# Altium integrated library Capacitor - Aluminium TH.IntLib: 4591 symbols (part 24 of 68)
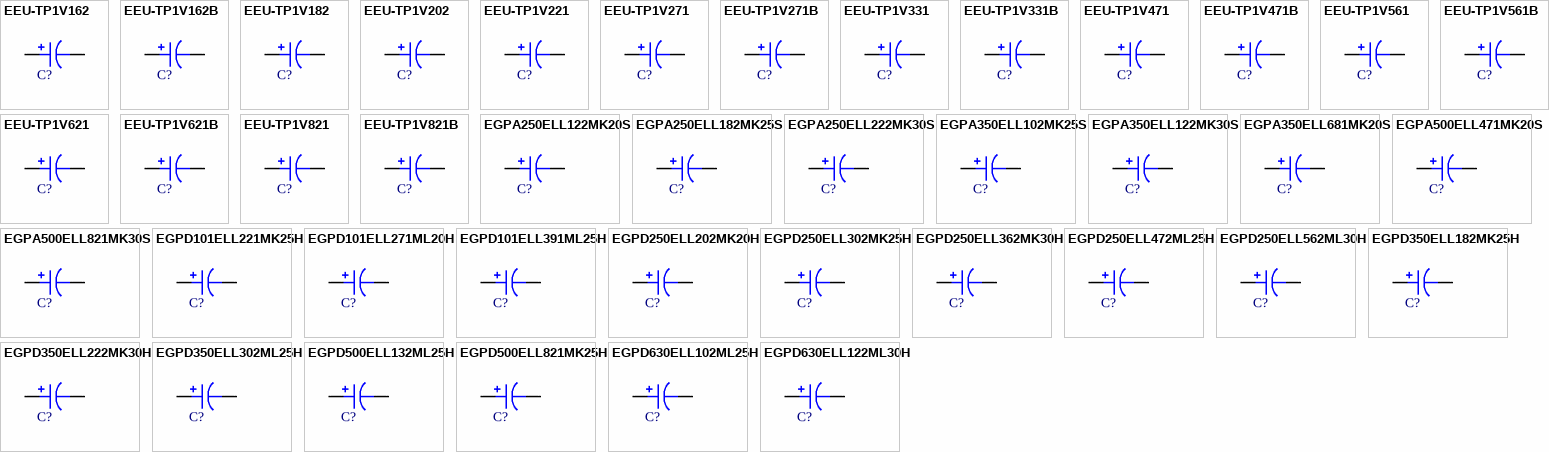
[diagram p137: symbols EEU-TP1V162 to EGPD630ELL122ML30H]

## EEU-TP1V202
designator C?, comment 2000uF  (value not drawn)
CAP ALUM 2000UF 20% 35V RADIAL; Part Number: EEU-TP1V202; Manufacturer: Panasonic Electronic Components; TemperatureRange: -40C ~ 135C; Type: Polar; Ripple Current: 2.6A @ 120Hz; Value: 2000uF; PartId: 27279; Supplier 1: Digi-Key; Supplier Part Number 1: P14933-ND; ComponentLink1Description: Datasheet; ComponentLink1URL: http://industrial.panasonic.com/www-cgi/jvcr13pz.cgi?E+PZ+4+ABA0132+EEUTP1V202+8+WW; ComponentLink2Description: Digi-Key Listing; ComponentLink2URL: https://www.digikey.com/product-detail/en/panasonic-electronic-components/EEU-TP1V202/P14933-ND/2757709; Tolerance: 20%; Voltage: 35V; Price: 3.17; Device Package: Radial, Can, 16mm
footprint CAP AL TH D16 L7.5 H33.5
pins: 1, 2

## EEU-TP1V221
designator C?, comment 220uF  (value not drawn)
CAP ALUM 220UF 20% 35V RADIAL; Part Number: EEU-TP1V221; Manufacturer: Panasonic Electronic Components; TemperatureRange: -40C ~ 135C; Type: Polar; Ripple Current: 715mA @ 120Hz; Value: 220uF; PartId: 25432; Supplier 1: Digi-Key; Supplier Part Number 1: P14948-ND; ComponentLink1Description: Datasheet; ComponentLink1URL: http://industrial.panasonic.com/www-cgi/jvcr13pz.cgi?E+PZ+4+ABA0132+EEUTP1V221+8+WW; ComponentLink2Description: Digi-Key Listing; ComponentLink2URL: https://www.digikey.com/product-detail/en/panasonic-electronic-components/EEU-TP1V221/P14948-ND/2757699; Tolerance: 20%; Voltage: 35V; Price: 1.23; Device Package: Radial, Can, 10mm
footprint CAP AL TH D10 L5 H17.5
pins: 1, 2

## EEU-TP1V271
designator C?, comment 270uF  (value not drawn)
CAP ALUM 270UF 20% 35V RADIAL; Part Number: EEU-TP1V271; Manufacturer: Panasonic Electronic Components; TemperatureRange: -40C ~ 135C; Type: Polar; Ripple Current: 715mA @ 120Hz; Value: 270uF; PartId: 25430; Supplier 1: Digi-Key; Supplier Part Number 1: P14947-ND; ComponentLink1Description: Datasheet; ComponentLink1URL: http://industrial.panasonic.com/www-cgi/jvcr13pz.cgi?E+PZ+4+ABA0132+EEUTP1V271+8+WW; ComponentLink2Description: Digi-Key Listing; ComponentLink2URL: https://www.digikey.com/product-detail/en/panasonic-electronic-components/EEU-TP1V271/P14947-ND/2757700; Tolerance: 20%; Voltage: 35V; Price: 1.23; Device Package: Radial, Can, 10mm
footprint CAP AL TH D10 L5 H17.5
pins: 1, 2

## EEU-TP1V271B
designator C?, comment 270uF  (value not drawn)
CAP ALUM 270UF 20% 35V RADIAL; Part Number: EEU-TP1V271B; Manufacturer: Panasonic Electronic Components; TemperatureRange: -40C ~ 135C; Type: Polar; Ripple Current: 715mA @ 120Hz; Value: 270uF; PartId: 25234; Supplier 1: Digi-Key; Supplier Part Number 1: P15705TB-ND; ComponentLink1Description: Datasheet; ComponentLink1URL: http://industrial.panasonic.com/www-cgi/jvcr13pz.cgi?E+PZ+4+ABA0132+EEUTP1V271B+8+WW; ComponentLink2Description: Digi-Key Listing; ComponentLink2URL: https://www.digikey.com/product-detail/en/panasonic-electronic-components/EEU-TP1V271B/P15705TB-ND/2756340; Tolerance: 20%; Voltage: 35V; Price: 0.5509; Device Package: Radial, Can, 10mm
footprint CAP AL TH D10 L5 H17.5
pins: 1, 2

## EEU-TP1V331
designator C?, comment 330uF  (value not drawn)
CAP ALUM 330UF 20% 35V RADIAL; Part Number: EEU-TP1V331; Manufacturer: Panasonic Electronic Components; TemperatureRange: -40C ~ 135C; Type: Polar; Ripple Current: 1.001A @ 120Hz; Value: 330uF; PartId: 25994; Supplier 1: Digi-Key; Supplier Part Number 1: P14944-ND; ComponentLink1Description: Datasheet; ComponentLink1URL: http://industrial.panasonic.com/www-cgi/jvcr13pz.cgi?E+PZ+4+ABA0132+EEUTP1V331+8+WW; ComponentLink2Description: Digi-Key Listing; ComponentLink2URL: https://www.digikey.com/product-detail/en/panasonic-electronic-components/EEU-TP1V331/P14944-ND/2757712; Tolerance: 20%; Voltage: 35V; Price: 1.41; Device Package: Radial, Can, 10mm
footprint CAP AL TH D10 L5 H22
pins: 1, 2

## EEU-TP1V331B
designator C?, comment 330uF  (value not drawn)
CAP ALUM 330UF 20% 35V RADIAL; Part Number: EEU-TP1V331B; Manufacturer: Panasonic Electronic Components; TemperatureRange: -40C ~ 135C; Type: Polar; Ripple Current: 1.001A @ 120Hz; Value: 330uF; PartId: 25866; Supplier 1: Digi-Key; Supplier Part Number 1: P15707TB-ND; ComponentLink1Description: Datasheet; ComponentLink1URL: http://industrial.panasonic.com/www-cgi/jvcr13pz.cgi?E+PZ+4+ABA0132+EEUTP1V331B+8+WW; ComponentLink2Description: Digi-Key Listing; ComponentLink2URL: https://www.digikey.com/product-detail/en/panasonic-electronic-components/EEU-TP1V331B/P15707TB-ND/2756342; Tolerance: 20%; Voltage: 35V; Price: 0.629; Device Package: Radial, Can, 10mm
footprint CAP AL TH D10 L5 H22
pins: 1, 2

## EEU-TP1V471
designator C?, comment 470uF  (value not drawn)
CAP ALUM 470UF 20% 35V RADIAL; Part Number: EEU-TP1V471; Manufacturer: Panasonic Electronic Components; TemperatureRange: -40C ~ 135C; Type: Polar; Ripple Current: 1.395A @ 120Hz; Value: 470uF; PartId: 23517; Supplier 1: Digi-Key; Supplier Part Number 1: P14942-ND; ComponentLink1Description: Datasheet; ComponentLink1URL: http://industrial.panasonic.com/www-cgi/jvcr13pz.cgi?E+PZ+4+ABA0132+EEUTP1V471+8+WW; ComponentLink2Description: Digi-Key Listing; ComponentLink2URL: https://www.digikey.com/product-detail/en/panasonic-electronic-components/EEU-TP1V471/P14942-ND/2757714; Tolerance: 20%; Voltage: 35V; Price: 1.82; Device Package: Radial, Can, 12.5mm
footprint CAP AL TH D12.5 L5 H22
pins: 1, 2

## EEU-TP1V471B
designator C?, comment 470uF  (value not drawn)
CAP ALUM 470UF 20% 35V RADIAL; Part Number: EEU-TP1V471B; Manufacturer: Panasonic Electronic Components; TemperatureRange: -40C ~ 135C; Type: Polar; Ripple Current: 1.395A @ 120Hz; Value: 470uF; PartId: 23525; Supplier 1: Digi-Key; Supplier Part Number 1: P15709CT-ND; ComponentLink1Description: Datasheet; ComponentLink2Description: Digi-Key Listing; ComponentLink2URL: https://www.digikey.com/product-detail/en/panasonic-electronic-components/EEU-TP1V471B/P15709CT-ND/3831076; Tolerance: 20%; Voltage: 35V; Price: 1.82; Device Package: Radial, Can, 12.5mm
footprint CAP AL TH D12.5 L5 H22
pins: 1, 2

## EEU-TP1V561
designator C?, comment 560uF  (value not drawn)
CAP ALUM 560UF 20% 35V RADIAL; Part Number: EEU-TP1V561; Manufacturer: Panasonic Electronic Components; TemperatureRange: -40C ~ 135C; Type: Polar; Ripple Current: 1.395A @ 120Hz; Value: 560uF; PartId: 23521; Supplier 1: Digi-Key; Supplier Part Number 1: P14941-ND; ComponentLink1Description: Datasheet; ComponentLink1URL: http://industrial.panasonic.com/www-cgi/jvcr13pz.cgi?E+PZ+4+ABA0132+EEUTP1V561+8+WW; ComponentLink2Description: Digi-Key Listing; ComponentLink2URL: https://www.digikey.com/product-detail/en/panasonic-electronic-components/EEU-TP1V561/P14941-ND/2757734; Tolerance: 20%; Voltage: 35V; Price: 1.82; Device Package: Radial, Can, 12.5mm
footprint CAP AL TH D12.5 L5 H22
pins: 1, 2

## EEU-TP1V561B
designator C?, comment 560uF  (value not drawn)
CAP ALUM 560UF 20% 35V RADIAL; Part Number: EEU-TP1V561B; Manufacturer: Panasonic Electronic Components; TemperatureRange: -40C ~ 135C; Type: Polar; Ripple Current: 1.395A @ 120Hz; Value: 560uF; PartId: 23314; Supplier 1: Digi-Key; Supplier Part Number 1: P15710TB-ND; ComponentLink1Description: Datasheet; ComponentLink1URL: http://industrial.panasonic.com/www-cgi/jvcr13pz.cgi?E+PZ+4+ABA0132+EEUTP1V561B+8+WW; ComponentLink2Description: Digi-Key Listing; ComponentLink2URL: https://www.digikey.com/product-detail/en/panasonic-electronic-components/EEU-TP1V561B/P15710TB-ND/2756348; Tolerance: 20%; Voltage: 35V; Price: 0.8126; Device Package: Radial, Can, 12.5mm
footprint CAP AL TH D12.5 L5 H22
pins: 1, 2

## EEU-TP1V621
designator C?, comment 620uF  (value not drawn)
CAP ALUM 620UF 20% 35V RADIAL; Part Number: EEU-TP1V621; Manufacturer: Panasonic Electronic Components; TemperatureRange: -40C ~ 135C; Type: Polar; Ripple Current: 1.395A @ 120Hz; Value: 620uF; PartId: 23519; Supplier 1: Digi-Key; Supplier Part Number 1: P14940-ND; ComponentLink1Description: Datasheet; ComponentLink1URL: http://industrial.panasonic.com/www-cgi/jvcr13pz.cgi?E+PZ+4+ABA0132+EEUTP1V621+8+WW; ComponentLink2Description: Digi-Key Listing; ComponentLink2URL: https://www.digikey.com/product-detail/en/panasonic-electronic-components/EEU-TP1V621/P14940-ND/2757736; Tolerance: 20%; Voltage: 35V; Price: 1.82; Device Package: Radial, Can, 12.5mm
footprint CAP AL TH D12.5 L5 H22
pins: 1, 2

## EEU-TP1V621B
designator C?, comment 620uF  (value not drawn)
CAP ALUM 620UF 20% 35V RADIAL; Part Number: EEU-TP1V621B; Manufacturer: Panasonic Electronic Components; TemperatureRange: -40C ~ 135C; Type: Polar; Ripple Current: 1.395A @ 120Hz; Value: 620uF; PartId: 23526; Supplier 1: Digi-Key; Supplier Part Number 1: P15711CT-ND; ComponentLink1Description: Datasheet; ComponentLink2Description: Digi-Key Listing; ComponentLink2URL: https://www.digikey.com/product-detail/en/panasonic-electronic-components/EEU-TP1V621B/P15711CT-ND/3831078; Tolerance: 20%; Voltage: 35V; Price: 1.82; Device Package: Radial, Can, 12.5mm
footprint CAP AL TH D12.5 L5 H22
pins: 1, 2

## EEU-TP1V821
designator C?, comment 820uF  (value not drawn)
CAP ALUM 820UF 20% 35V RADIAL; Part Number: EEU-TP1V821; Manufacturer: Panasonic Electronic Components; TemperatureRange: -40C ~ 135C; Type: Polar; Ripple Current: 1.635A @ 120Hz; Value: 820uF; PartId: 24184; Supplier 1: Digi-Key; Supplier Part Number 1: P14939-ND; ComponentLink1Description: Datasheet; ComponentLink1URL: http://industrial.panasonic.com/www-cgi/jvcr13pz.cgi?E+PZ+4+ABA0132+EEUTP1V821+8+WW; ComponentLink2Description: Digi-Key Listing; ComponentLink2URL: https://www.digikey.com/product-detail/en/panasonic-electronic-components/EEU-TP1V821/P14939-ND/2757715; Tolerance: 20%; Voltage: 35V; Price: 1.95; Device Package: Radial, Can, 12.5mm
footprint CAP AL TH D12.5 L5 H27
pins: 1, 2

## EEU-TP1V821B
designator C?, comment 820uF  (value not drawn)
CAP ALUM 820UF 20% 35V RADIAL; Part Number: EEU-TP1V821B; Manufacturer: Panasonic Electronic Components; TemperatureRange: -40C ~ 135C; Type: Polar; Ripple Current: 1.635A @ 120Hz; Value: 820uF; PartId: 23910; Supplier 1: Digi-Key; Supplier Part Number 1: P15712TB-ND; ComponentLink1Description: Datasheet; ComponentLink1URL: http://industrial.panasonic.com/www-cgi/jvcr13pz.cgi?E+PZ+4+ABA0132+EEUTP1V821B+8+WW; ComponentLink2Description: Digi-Key Listing; ComponentLink2URL: https://www.digikey.com/product-detail/en/panasonic-electronic-components/EEU-TP1V821B/P15712TB-ND/2756350; Tolerance: 20%; Voltage: 35V; Price: 0.9195; Device Package: Radial, Can, 12.5mm
footprint CAP AL TH D12.5 L5 H27
pins: 1, 2

## EGPA250ELL122MK20S
designator C?, comment 1200uF  (value not drawn)
CAP ALUM 1200UF 20% 25V RADIAL; Part Number: EGPA250ELL122MK20S; Manufacturer: United Chemi-Con; TemperatureRange: -40C ~ 125C; Type: Polar; Ripple Current: 1.092A @ 120Hz; Value: 1200uF; PartId: 23015; Supplier 1: Digi-Key; Supplier Part Number 1: 565-3375-ND; ComponentLink1Description: Datasheet; ComponentLink1URL: //media.digikey.com/pdf/Data%20Sheets/United%20Chemi-Con%20PDFs/GPA_Series.PDF; ComponentLink2Description: Digi-Key Listing; ComponentLink2URL: https://www.digikey.com/product-detail/en/united-chemi-con/EGPA250ELL122MK20S/565-3375-ND/3528506; Tolerance: 20%; Voltage: 25V; Price: 0; Device Package: Radial, Can, 12.5mm
footprint CAP AL TH D12.5 L5 H21.5
pins: 1, 2

## EGPA250ELL182MK25S
designator C?, comment 1800uF  (value not drawn)
CAP ALUM 1800UF 20% 25V RADIAL; Part Number: EGPA250ELL182MK25S; Manufacturer: United Chemi-Con; TemperatureRange: -40C ~ 125C; Type: Polar; Ripple Current: 1.368A @ 120Hz; Value: 1800uF; PartId: 23737; Supplier 1: Digi-Key; Supplier Part Number 1: 565-3376-ND; ComponentLink1Description: Datasheet; ComponentLink1URL: //media.digikey.com/pdf/Data%20Sheets/United%20Chemi-Con%20PDFs/GPA_Series.PDF; ComponentLink2Description: Digi-Key Listing; ComponentLink2URL: https://www.digikey.com/product-detail/en/united-chemi-con/EGPA250ELL182MK25S/565-3376-ND/3528508; Tolerance: 20%; Voltage: 25V; Price: 1.54; Device Package: Radial, Can, 12.5mm
footprint CAP AL TH D12.5 L5 H26.5
pins: 1, 2

## EGPA250ELL222MK30S
designator C?, comment 2200uF  (value not drawn)
CAP ALUM 2200UF 20% 25V RADIAL; Part Number: EGPA250ELL222MK30S; Manufacturer: United Chemi-Con; TemperatureRange: -40C ~ 125C; Type: Polar; Ripple Current: 1.92A @ 120Hz; Value: 2200uF; PartId: 24395; Supplier 1: Digi-Key; Supplier Part Number 1: 565-3377-ND; ComponentLink1Description: Datasheet; ComponentLink1URL: //media.digikey.com/pdf/Data%20Sheets/United%20Chemi-Con%20PDFs/GPA_Series.PDF; ComponentLink2Description: Digi-Key Listing; ComponentLink2URL: https://www.digikey.com/product-detail/en/united-chemi-con/EGPA250ELL222MK30S/565-3377-ND/3528510; Tolerance: 20%; Voltage: 25V; Price: 1.82; Device Package: Radial, Can, 12.5mm
footprint CAP AL TH D12.5 L5 H35.5
pins: 1, 2

## EGPA350ELL102MK25S
designator C?, comment 1000uF  (value not drawn)
CAP ALUM 1000UF 20% 35V RADIAL; Part Number: EGPA350ELL102MK25S; Manufacturer: United Chemi-Con; TemperatureRange: -40C ~ 125C; Type: Polar; Ripple Current: 1.368A @ 120Hz; Value: 1000uF; PartId: 23733; Supplier 1: Digi-Key; Supplier Part Number 1: 565-3386-ND; ComponentLink1Description: Datasheet; ComponentLink1URL: //media.digikey.com/pdf/Data%20Sheets/United%20Chemi-Con%20PDFs/GPA_Series.PDF; ComponentLink2Description: Digi-Key Listing; ComponentLink2URL: https://www.digikey.com/product-detail/en/united-chemi-con/EGPA350ELL102MK25S/565-3386-ND/3528524; Tolerance: 20%; Voltage: 35V; Price: 1.46; Device Package: Radial, Can, 12.5mm
footprint CAP AL TH D12.5 L5 H26.5
pins: 1, 2

## EGPA350ELL122MK30S
designator C?, comment 1200uF  (value not drawn)
CAP ALUM 1200UF 20% 35V RADIAL; Part Number: EGPA350ELL122MK30S; Manufacturer: United Chemi-Con; TemperatureRange: -40C ~ 125C; Type: Polar; Ripple Current: 1.536A @ 120Hz; Value: 1200uF; PartId: 24370; Supplier 1: Digi-Key; Supplier Part Number 1: 565-3387-ND; ComponentLink1Description: Datasheet; ComponentLink1URL: //media.digikey.com/pdf/Data%20Sheets/United%20Chemi-Con%20PDFs/GPA_Series.PDF; ComponentLink2Description: Digi-Key Listing; ComponentLink2URL: https://www.digikey.com/product-detail/en/united-chemi-con/EGPA350ELL122MK30S/565-3387-ND/3528526; Tolerance: 20%; Voltage: 35V; Price: 1.59; Device Package: Radial, Can, 12.5mm
footprint CAP AL TH D12.5 L5 H35.5
pins: 1, 2

## EGPA350ELL681MK20S
designator C?, comment 680uF  (value not drawn)
CAP ALUM 680UF 20% 35V RADIAL; Part Number: EGPA350ELL681MK20S; Manufacturer: United Chemi-Con; TemperatureRange: -40C ~ 125C; Type: Polar; Ripple Current: 1.092A @ 120Hz; Value: 680uF; PartId: 23040; Supplier 1: Digi-Key; Supplier Part Number 1: 565-3388-ND; ComponentLink1Description: Datasheet; ComponentLink1URL: //media.digikey.com/pdf/Data%20Sheets/United%20Chemi-Con%20PDFs/GPA_Series.PDF; ComponentLink2Description: Digi-Key Listing; ComponentLink2URL: https://www.digikey.com/product-detail/en/united-chemi-con/EGPA350ELL681MK20S/565-3388-ND/3528541; Tolerance: 20%; Voltage: 35V; Price: 0; Device Package: Radial, Can, 12.5mm
footprint CAP AL TH D12.5 L5 H21.5
pins: 1, 2

## EGPA500ELL471MK20S
designator C?, comment 470uF  (value not drawn)
CAP ALUM 470UF 20% 50V RADIAL; Part Number: EGPA500ELL471MK20S; Manufacturer: United Chemi-Con; TemperatureRange: -40C ~ 125C; Type: Polar; Ripple Current: 750mA @ 120Hz; Value: 470uF; PartId: 23041; Supplier 1: Digi-Key; Supplier Part Number 1: 565-3397-ND; ComponentLink1Description: Datasheet; ComponentLink1URL: //media.digikey.com/pdf/Data%20Sheets/United%20Chemi-Con%20PDFs/GPA_Series.PDF; ComponentLink2Description: Digi-Key Listing; ComponentLink2URL: https://www.digikey.com/product-detail/en/united-chemi-con/EGPA500ELL471MK20S/565-3397-ND/3528552; Tolerance: 20%; Voltage: 50V; Price: 0; Device Package: Radial, Can, 12.5mm
footprint CAP AL TH D12.5 L5 H21.5
pins: 1, 2

## EGPA500ELL821MK30S
designator C?, comment 820uF  (value not drawn)
CAP ALUM 820UF 20% 50V RADIAL; Part Number: EGPA500ELL821MK30S; Manufacturer: United Chemi-Con; TemperatureRange: -40C ~ 125C; Type: Polar; Ripple Current: 1.29A @ 120Hz; Value: 820uF; PartId: 24342; Supplier 1: Digi-Key; Supplier Part Number 1: 565-3398-ND; ComponentLink1Description: Datasheet; ComponentLink1URL: //media.digikey.com/pdf/Data%20Sheets/United%20Chemi-Con%20PDFs/GPA_Series.PDF; ComponentLink2Description: Digi-Key Listing; ComponentLink2URL: https://www.digikey.com/product-detail/en/united-chemi-con/EGPA500ELL821MK30S/565-3398-ND/3528555; Tolerance: 20%; Voltage: 50V; Price: 1.33; Device Package: Radial, Can, 12.5mm
footprint CAP AL TH D12.5 L5 H35.5
pins: 1, 2

## EGPD101ELL221MK25H
designator C?, comment 220uF  (value not drawn)
CAP ALUM 220UF 20% 100V RADIAL; Part Number: EGPD101ELL221MK25H; Manufacturer: United Chemi-Con; TemperatureRange: -40C ~ 135C; Type: Polar; Ripple Current: 1.07A @ 120Hz; Value: 220uF; PartId: 23773; Supplier 1: Digi-Key; Supplier Part Number 1: 565-3824-ND; ComponentLink1Description: Datasheet; ComponentLink1URL: http://www.chemi-con.co.jp/cgi-bin/CAT_DB/SEARCH/cat_db_al.cgi?e=e&j=p&pdfname=gpd; ComponentLink2Description: Digi-Key Listing; ComponentLink2URL: https://www.digikey.com/product-detail/en/united-chemi-con/EGPD101ELL221MK25H/565-3824-ND/4843634; Tolerance: 20%; Voltage: 100V; Price: 2.01; Device Package: Radial, Can, 12.5mm
footprint CAP AL TH D12.5 L5 H26.5
pins: 1, 2

## EGPD101ELL271ML20H
designator C?, comment 270uF  (value not drawn)
CAP ALUM 270UF 20% 100V RADIAL; Part Number: EGPD101ELL271ML20H; Manufacturer: United Chemi-Con; TemperatureRange: -40C ~ 135C; Type: Polar; Ripple Current: 1.025A @ 120Hz; Value: 270uF; PartId: 26502; Supplier 1: Digi-Key; Supplier Part Number 1: 565-3825-ND; ComponentLink1Description: Datasheet; ComponentLink1URL: http://www.chemi-con.co.jp/cgi-bin/CAT_DB/SEARCH/cat_db_al.cgi?e=e&j=p&pdfname=gpd; ComponentLink2Description: Digi-Key Listing; ComponentLink2URL: https://www.digikey.com/product-detail/en/united-chemi-con/EGPD101ELL271ML20H/565-3825-ND/4843635; Tolerance: 20%; Voltage: 100V; Price: 2.47; Device Package: Radial, Can, 16mm
footprint CAP AL TH D16 L7.5 H22
pins: 1, 2

## EGPD101ELL391ML25H
designator C?, comment 390uF  (value not drawn)
CAP ALUM 390UF 20% 100V RADIAL; Part Number: EGPD101ELL391ML25H; Manufacturer: United Chemi-Con; TemperatureRange: -40C ~ 135C; Type: Polar; Ripple Current: 1.395A @ 120Hz; Value: 390uF; PartId: 26730; Supplier 1: Digi-Key; Supplier Part Number 1: 565-3827-ND; ComponentLink1Description: Datasheet; ComponentLink1URL: http://www.chemi-con.co.jp/cgi-bin/CAT_DB/SEARCH/cat_db_al.cgi?e=e&j=p&pdfname=gpd; ComponentLink2Description: Digi-Key Listing; ComponentLink2URL: https://www.digikey.com/product-detail/en/united-chemi-con/EGPD101ELL391ML25H/565-3827-ND/4843637; Tolerance: 20%; Voltage: 100V; Price: 3.13; Device Package: Radial, Can, 16mm
footprint CAP AL TH D16 L7.5 H26.5
pins: 1, 2

## EGPD250ELL202MK20H
designator C?, comment 2000uF  (value not drawn)
CAP ALUM 2000UF 20% 25V RADIAL; Part Number: EGPD250ELL202MK20H; Manufacturer: United Chemi-Con; TemperatureRange: -40C ~ 135C; Type: Polar; Ripple Current: 1.656A @ 120Hz; Value: 2000uF; PartId: 23070; Supplier 1: Digi-Key; Supplier Part Number 1: 565-3794-ND; ComponentLink1Description: Datasheet; ComponentLink1URL: http://www.chemi-con.co.jp/cgi-bin/CAT_DB/SEARCH/cat_db_al.cgi?e=e&j=p&pdfname=gpd; ComponentLink2Description: Digi-Key Listing; ComponentLink2URL: https://www.digikey.com/product-detail/en/united-chemi-con/EGPD250ELL202MK20H/565-3794-ND/4843604; Tolerance: 20%; Voltage: 25V; Price: 0; Device Package: Radial, Can, 12.5mm
footprint CAP AL TH D12.5 L5 H21.5
pins: 1, 2

## EGPD250ELL302MK25H
designator C?, comment 3000uF  (value not drawn)
CAP ALUM 3000UF 20% 25V RADIAL; Part Number: EGPD250ELL302MK25H; Manufacturer: United Chemi-Con; TemperatureRange: -40C ~ 135C; Type: Polar; Ripple Current: 2.61A @ 120Hz; Value: 3000uF; PartId: 24181; Supplier 1: Digi-Key; Supplier Part Number 1: 565-3795-ND; ComponentLink1Description: Datasheet; ComponentLink1URL: http://www.chemi-con.co.jp/cgi-bin/CAT_DB/SEARCH/cat_db_al.cgi?e=e&j=p&pdfname=gpd; ComponentLink2Description: Digi-Key Listing; ComponentLink2URL: https://www.digikey.com/product-detail/en/united-chemi-con/EGPD250ELL302MK25H/565-3795-ND/4843605; Tolerance: 20%; Voltage: 25V; Price: 1.92; Device Package: Radial, Can, 12.5mm
footprint CAP AL TH D12.5 L5 H27
pins: 1, 2

## EGPD250ELL362MK30H
designator C?, comment 3600uF  (value not drawn)
CAP ALUM 3600UF 20% 25V RADIAL; Part Number: EGPD250ELL362MK30H; Manufacturer: United Chemi-Con; TemperatureRange: -40C ~ 135C; Type: Polar; Ripple Current: 3.3675A @ 120Hz; Value: 3600uF; PartId: 24415; Supplier 1: Digi-Key; Supplier Part Number 1: 565-3796-ND; ComponentLink1Description: Datasheet; ComponentLink1URL: http://www.chemi-con.co.jp/cgi-bin/CAT_DB/SEARCH/cat_db_al.cgi?e=e&j=p&pdfname=gpd; ComponentLink2Description: Digi-Key Listing; ComponentLink2URL: https://www.digikey.com/product-detail/en/united-chemi-con/EGPD250ELL362MK30H/565-3796-ND/4843606; Tolerance: 20%; Voltage: 25V; Price: 2.14; Device Package: Radial, Can, 12.5mm
footprint CAP AL TH D12.5 L5 H35.5
pins: 1, 2

## EGPD250ELL472ML25H
designator C?, comment 4700uF  (value not drawn)
CAP ALUM 4700UF 20% 25V RADIAL; Part Number: EGPD250ELL472ML25H; Manufacturer: United Chemi-Con; TemperatureRange: -40C ~ 135C; Type: Polar; Ripple Current: 3.621A @ 120Hz; Value: 4700uF; PartId: 26722; Supplier 1: Digi-Key; Supplier Part Number 1: 565-3797-ND; ComponentLink1Description: Datasheet; ComponentLink1URL: http://www.chemi-con.co.jp/cgi-bin/CAT_DB/SEARCH/cat_db_al.cgi?e=e&j=p&pdfname=gpd; ComponentLink2Description: Digi-Key Listing; ComponentLink2URL: https://www.digikey.com/product-detail/en/united-chemi-con/EGPD250ELL472ML25H/565-3797-ND/4843607; Tolerance: 20%; Voltage: 25V; Price: 2.79; Device Package: Radial, Can, 16mm
footprint CAP AL TH D16 L7.5 H26.5
pins: 1, 2

## EGPD250ELL562ML30H
designator C?, comment 5600uF  (value not drawn)
CAP ALUM 5600UF 20% 25V RADIAL; Part Number: EGPD250ELL562ML30H; Manufacturer: United Chemi-Con; TemperatureRange: -40C ~ 135C; Type: Polar; Ripple Current: 2.89A @ 120Hz; Value: 5600uF; PartId: 27278; Supplier 1: Digi-Key; Supplier Part Number 1: 565-3798-ND; ComponentLink1Description: Datasheet; ComponentLink1URL: http://www.chemi-con.co.jp/cgi-bin/CAT_DB/SEARCH/cat_db_al.cgi?e=e&j=p&pdfname=gpd; ComponentLink2Description: Digi-Key Listing; ComponentLink2URL: https://www.digikey.com/product-detail/en/united-chemi-con/EGPD250ELL562ML30H/565-3798-ND/4843608; Tolerance: 20%; Voltage: 25V; Price: 3.15; Device Package: Radial, Can, 16mm
footprint CAP AL TH D16 L7.5 H33.5
pins: 1, 2

## EGPD350ELL182MK25H
designator C?, comment 1800uF  (value not drawn)
CAP ALUM 1800UF 20% 35V RADIAL; Part Number: EGPD350ELL182MK25H; Manufacturer: United Chemi-Con; TemperatureRange: -40C ~ 135C; Type: Polar; Ripple Current: 2.088A @ 120Hz; Value: 1800uF; PartId: 23772; Supplier 1: Digi-Key; Supplier Part Number 1: 565-3801-ND; ComponentLink1Description: Datasheet; ComponentLink1URL: http://www.chemi-con.co.jp/cgi-bin/CAT_DB/SEARCH/cat_db_al.cgi?e=e&j=p&pdfname=gpd; ComponentLink2Description: Digi-Key Listing; ComponentLink2URL: https://www.digikey.com/product-detail/en/united-chemi-con/EGPD350ELL182MK25H/565-3801-ND/4843611; Tolerance: 20%; Voltage: 35V; Price: 1.94; Device Package: Radial, Can, 12.5mm
footprint CAP AL TH D12.5 L5 H26.5
pins: 1, 2

## EGPD350ELL222MK30H
designator C?, comment 2200uF  (value not drawn)
CAP ALUM 2200UF 20% 35V RADIAL; Part Number: EGPD350ELL222MK30H; Manufacturer: United Chemi-Con; TemperatureRange: -40C ~ 135C; Type: Polar; Ripple Current: 3.3675A @ 120Hz; Value: 2200uF; PartId: 24417; Supplier 1: Digi-Key; Supplier Part Number 1: 565-3802-ND; ComponentLink1Description: Datasheet; ComponentLink1URL: http://www.chemi-con.co.jp/cgi-bin/CAT_DB/SEARCH/cat_db_al.cgi?e=e&j=p&pdfname=gpd; ComponentLink2Description: Digi-Key Listing; ComponentLink2URL: https://www.digikey.com/product-detail/en/united-chemi-con/EGPD350ELL222MK30H/565-3802-ND/4843612; Tolerance: 20%; Voltage: 35V; Price: 2.19; Device Package: Radial, Can, 12.5mm
footprint CAP AL TH D12.5 L5 H35.5
pins: 1, 2

## EGPD350ELL302ML25H
designator C?, comment 3000uF  (value not drawn)
CAP ALUM 3000UF 20% 35V RADIAL; Part Number: EGPD350ELL302ML25H; Manufacturer: United Chemi-Con; TemperatureRange: -40C ~ 135C; Type: Polar; Ripple Current: 3.195A @ 120Hz; Value: 3000uF; PartId: 26727; Supplier 1: Digi-Key; Supplier Part Number 1: 565-3804-ND; ComponentLink1Description: Datasheet; ComponentLink1URL: http://www.chemi-con.co.jp/cgi-bin/CAT_DB/SEARCH/cat_db_al.cgi?e=e&j=p&pdfname=gpd; ComponentLink2Description: Digi-Key Listing; ComponentLink2URL: https://www.digikey.com/product-detail/en/united-chemi-con/EGPD350ELL302ML25H/565-3804-ND/4843614; Tolerance: 20%; Voltage: 35V; Price: 2.92; Device Package: Radial, Can, 16mm
footprint CAP AL TH D16 L7.5 H26.5
pins: 1, 2

## EGPD500ELL132ML25H
designator C?, comment 1300uF  (value not drawn)
CAP ALUM 1300UF 20% 50V RADIAL; Part Number: EGPD500ELL132ML25H; Manufacturer: United Chemi-Con; TemperatureRange: -40C ~ 135C; Type: Polar; Ripple Current: 2.424A @ 120Hz; Value: 1300uF; PartId: 26716; Supplier 1: Digi-Key; Supplier Part Number 1: 565-3808-ND; ComponentLink1Description: Datasheet; ComponentLink1URL: http://www.chemi-con.co.jp/cgi-bin/CAT_DB/SEARCH/cat_db_al.cgi?e=e&j=p&pdfname=gpd; ComponentLink2Description: Digi-Key Listing; ComponentLink2URL: https://www.digikey.com/product-detail/en/united-chemi-con/EGPD500ELL132ML25H/565-3808-ND/4843618; Tolerance: 20%; Voltage: 50V; Price: 2.56; Device Package: Radial, Can, 16mm
footprint CAP AL TH D16 L7.5 H26.5
pins: 1, 2

## EGPD500ELL821MK25H
designator C?, comment 820uF  (value not drawn)
CAP ALUM 820UF 20% 50V RADIAL; Part Number: EGPD500ELL821MK25H; Manufacturer: United Chemi-Con; TemperatureRange: -40C ~ 135C; Type: Polar; Ripple Current: 2.01A @ 120Hz; Value: 820uF; PartId: 23764; Supplier 1: Digi-Key; Supplier Part Number 1: 565-3807-ND; ComponentLink1Description: Datasheet; ComponentLink1URL: http://www.chemi-con.co.jp/cgi-bin/CAT_DB/SEARCH/cat_db_al.cgi?e=e&j=p&pdfname=gpd; ComponentLink2Description: Digi-Key Listing; ComponentLink2URL: https://www.digikey.com/product-detail/en/united-chemi-con/EGPD500ELL821MK25H/565-3807-ND/4843617; Tolerance: 20%; Voltage: 50V; Price: 1.79; Device Package: Radial, Can, 12.5mm
footprint CAP AL TH D12.5 L5 H26.5
pins: 1, 2

## EGPD630ELL102ML25H
designator C?, comment 1000uF  (value not drawn)
CAP ALUM 1000UF 20% 63V RADIAL; Part Number: EGPD630ELL102ML25H; Manufacturer: United Chemi-Con; TemperatureRange: -40C ~ 135C; Type: Polar; Ripple Current: 1.764A @ 120Hz; Value: 1000uF; PartId: 26718; Supplier 1: Digi-Key; Supplier Part Number 1: 565-3814-ND; ComponentLink1Description: Datasheet; ComponentLink1URL: http://www.chemi-con.co.jp/cgi-bin/CAT_DB/SEARCH/cat_db_al.cgi?e=e&j=p&pdfname=gpd; ComponentLink2Description: Digi-Key Listing; ComponentLink2URL: https://www.digikey.com/product-detail/en/united-chemi-con/EGPD630ELL102ML25H/565-3814-ND/4843624; Tolerance: 20%; Voltage: 63V; Price: 2.61; Device Package: Radial, Can, 16mm
footprint CAP AL TH D16 L7.5 H26.5
pins: 1, 2

## EGPD630ELL122ML30H
designator C?, comment 1200uF  (value not drawn)
CAP ALUM 1200UF 20% 63V RADIAL; Part Number: EGPD630ELL122ML30H; Manufacturer: United Chemi-Con; TemperatureRange: -40C ~ 135C; Type: Polar; Ripple Current: 2.316A @ 120Hz; Value: 1200uF; PartId: 27264; Supplier 1: Digi-Key; Supplier Part Number 1: 565-3815-ND; ComponentLink1Description: Datasheet; ComponentLink1URL: http://www.chemi-con.co.jp/cgi-bin/CAT_DB/SEARCH/cat_db_al.cgi?e=e&j=p&pdfname=gpd; ComponentLink2Description: Digi-Key Listing; ComponentLink2URL: https://www.digikey.com/product-detail/en/united-chemi-con/EGPD630ELL122ML30H/565-3815-ND/4843625; Tolerance: 20%; Voltage: 63V; Price: 2.9; Device Package: Radial, Can, 16mm
footprint CAP AL TH D16 L7.5 H33.5
pins: 1, 2

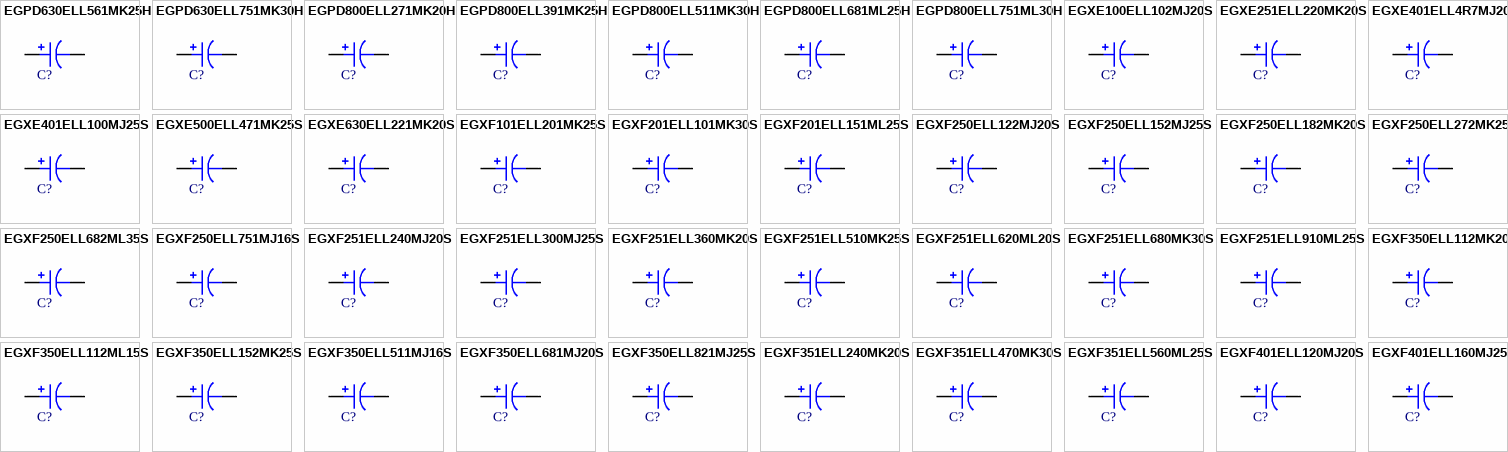
[diagram p39: symbols EGPD630ELL561MK25H to EGXF401ELL160MJ25S]

## EGPD630ELL561MK25H
designator C?, comment 560uF  (value not drawn)
CAP ALUM 560UF 20% 63V RADIAL; Part Number: EGPD630ELL561MK25H; Manufacturer: United Chemi-Con; TemperatureRange: -40C ~ 135C; Type: Polar; Ripple Current: 1.26A @ 120Hz; Value: 560uF; PartId: 23769; Supplier 1: Digi-Key; Supplier Part Number 1: 565-3811-ND; ComponentLink1Description: Datasheet; ComponentLink1URL: http://www.chemi-con.co.jp/cgi-bin/CAT_DB/SEARCH/cat_db_al.cgi?e=e&j=p&pdfname=gpd; ComponentLink2Description: Digi-Key Listing; ComponentLink2URL: https://www.digikey.com/product-detail/en/united-chemi-con/EGPD630ELL561MK25H/565-3811-ND/4843621; Tolerance: 20%; Voltage: 63V; Price: 1.88; Device Package: Radial, Can, 12.5mm
footprint CAP AL TH D12.5 L5 H26.5
pins: 1, 2

## EGPD630ELL751MK30H
designator C?, comment 750uF  (value not drawn)
CAP ALUM 750UF 20% 63V RADIAL; Part Number: EGPD630ELL751MK30H; Manufacturer: United Chemi-Con; TemperatureRange: -40C ~ 135C; Type: Polar; Ripple Current: 2.3325A @ 120Hz; Value: 750uF; PartId: 24407; Supplier 1: Digi-Key; Supplier Part Number 1: 565-3812-ND; ComponentLink1Description: Datasheet; ComponentLink1URL: http://www.chemi-con.co.jp/cgi-bin/CAT_DB/SEARCH/cat_db_al.cgi?e=e&j=p&pdfname=gpd; ComponentLink2Description: Digi-Key Listing; ComponentLink2URL: https://www.digikey.com/product-detail/en/united-chemi-con/EGPD630ELL751MK30H/565-3812-ND/4843622; Tolerance: 20%; Voltage: 63V; Price: 1.99; Device Package: Radial, Can, 12.5mm
footprint CAP AL TH D12.5 L5 H35.5
pins: 1, 2

## EGPD800ELL271MK20H
designator C?, comment 270uF  (value not drawn)
CAP ALUM 270UF 20% 80V RADIAL; Part Number: EGPD800ELL271MK20H; Manufacturer: United Chemi-Con; TemperatureRange: -40C ~ 135C; Type: Polar; Ripple Current: 820mA @ 120Hz; Value: 270uF; PartId: 23073; Supplier 1: Digi-Key; Supplier Part Number 1: 565-3817-ND; ComponentLink1Description: Datasheet; ComponentLink1URL: http://www.chemi-con.co.jp/cgi-bin/CAT_DB/SEARCH/cat_db_al.cgi?e=e&j=p&pdfname=gpd; ComponentLink2Description: Digi-Key Listing; ComponentLink2URL: https://www.digikey.com/product-detail/en/united-chemi-con/EGPD800ELL271MK20H/565-3817-ND/4843627; Tolerance: 20%; Voltage: 80V; Price: 0; Device Package: Radial, Can, 12.5mm
footprint CAP AL TH D12.5 L5 H21.5
pins: 1, 2

## EGPD800ELL391MK25H
designator C?, comment 390uF  (value not drawn)
CAP ALUM 390UF 20% 80V RADIAL; Part Number: EGPD800ELL391MK25H; Manufacturer: United Chemi-Con; TemperatureRange: -40C ~ 135C; Type: Polar; Ripple Current: 1.26A @ 120Hz; Value: 390uF; PartId: 23743; Supplier 1: Digi-Key; Supplier Part Number 1: 565-3818-ND; ComponentLink1Description: Datasheet; ComponentLink1URL: http://www.chemi-con.co.jp/cgi-bin/CAT_DB/SEARCH/cat_db_al.cgi?e=e&j=p&pdfname=gpd; ComponentLink2Description: Digi-Key Listing; ComponentLink2URL: https://www.digikey.com/product-detail/en/united-chemi-con/EGPD800ELL391MK25H/565-3818-ND/4843628; Tolerance: 20%; Voltage: 80V; Price: 1.62; Device Package: Radial, Can, 12.5mm
footprint CAP AL TH D12.5 L5 H26.5
pins: 1, 2

## EGPD800ELL511MK30H
designator C?, comment 510uF  (value not drawn)
CAP ALUM 510UF 20% 80V RADIAL; Part Number: EGPD800ELL511MK30H; Manufacturer: United Chemi-Con; TemperatureRange: -40C ~ 135C; Type: Polar; Ripple Current: 1.555A @ 120Hz; Value: 510uF; PartId: 24414; Supplier 1: Digi-Key; Supplier Part Number 1: 565-3819-ND; ComponentLink1Description: Datasheet; ComponentLink1URL: http://www.chemi-con.co.jp/cgi-bin/CAT_DB/SEARCH/cat_db_al.cgi?e=e&j=p&pdfname=gpd; ComponentLink2Description: Digi-Key Listing; ComponentLink2URL: https://www.digikey.com/product-detail/en/united-chemi-con/EGPD800ELL511MK30H/565-3819-ND/4843629; Tolerance: 20%; Voltage: 80V; Price: 2.1; Device Package: Radial, Can, 12.5mm
footprint CAP AL TH D12.5 L5 H35.5
pins: 1, 2

## EGPD800ELL681ML25H
designator C?, comment 680uF  (value not drawn)
CAP ALUM 680UF 20% 80V RADIAL; Part Number: EGPD800ELL681ML25H; Manufacturer: United Chemi-Con; TemperatureRange: -40C ~ 135C; Type: Polar; Ripple Current: 1.764A @ 120Hz; Value: 680uF; PartId: 26721; Supplier 1: Digi-Key; Supplier Part Number 1: 565-3820-ND; ComponentLink1Description: Datasheet; ComponentLink1URL: http://www.chemi-con.co.jp/cgi-bin/CAT_DB/SEARCH/cat_db_al.cgi?e=e&j=p&pdfname=gpd; ComponentLink2Description: Digi-Key Listing; ComponentLink2URL: https://www.digikey.com/product-detail/en/united-chemi-con/EGPD800ELL681ML25H/565-3820-ND/4843630; Tolerance: 20%; Voltage: 80V; Price: 2.76; Device Package: Radial, Can, 16mm
footprint CAP AL TH D16 L7.5 H26.5
pins: 1, 2

## EGPD800ELL751ML30H
designator C?, comment 750uF  (value not drawn)
CAP ALUM 750UF 20% 80V RADIAL; Part Number: EGPD800ELL751ML30H; Manufacturer: United Chemi-Con; TemperatureRange: -40C ~ 135C; Type: Polar; Ripple Current: 2.316A @ 120Hz; Value: 750uF; PartId: 27267; Supplier 1: Digi-Key; Supplier Part Number 1: 565-3821-ND; ComponentLink1Description: Datasheet; ComponentLink1URL: http://www.chemi-con.co.jp/cgi-bin/CAT_DB/SEARCH/cat_db_al.cgi?e=e&j=p&pdfname=gpd; ComponentLink2Description: Digi-Key Listing; ComponentLink2URL: https://www.digikey.com/product-detail/en/united-chemi-con/EGPD800ELL751ML30H/565-3821-ND/4843631; Tolerance: 20%; Voltage: 80V; Price: 2.98; Device Package: Radial, Can, 16mm
footprint CAP AL TH D16 L7.5 H33.5
pins: 1, 2

## EGXE100ELL102MJ20S
designator C?, comment 1000uF  (value not drawn)
CAP ALUM 1000UF 20% 10V RADIAL; Part Number: EGXE100ELL102MJ20S; Manufacturer: United Chemi-Con; TemperatureRange: -40C ~ 125C; Type: Polar; Ripple Current: 570mA @ 120Hz; Impedance: 75 mOhm; Value: 1000uF; PartId: 25871; Supplier 1: Digi-Key; Supplier Part Number 1: 565-3431-ND; ComponentLink1Description: Datasheet; ComponentLink1URL: http://www.chemi-con.co.jp/cgi-bin/CAT_DB/SEARCH/cat_db_al.cgi?e=e&j=p&pdfname=gxe; ComponentLink2Description: Digi-Key Listing; ComponentLink2URL: https://www.digikey.com/product-detail/en/united-chemi-con/EGXE100ELL102MJ20S/565-3431-ND/3528577; Tolerance: 20%; Voltage: 10V; Price: 0.63; Device Package: Radial, Can, 10mm
footprint CAP AL TH D10 L5 H22
pins: 1, 2

## EGXE251ELL220MK20S
designator C?, comment 22uF  (value not drawn)
CAP ALUM 22UF 20% 250V RADIAL; Part Number: EGXE251ELL220MK20S; Manufacturer: United Chemi-Con; TemperatureRange: -40C ~ 125C; Type: Polar; Ripple Current: 128mA @ 120Hz; Value: 22uF; PartId: 23446; Supplier 1: Digi-Key; Supplier Part Number 1: 565-3439-ND; ComponentLink1Description: Datasheet; ComponentLink1URL: http://www.chemi-con.co.jp/cgi-bin/CAT_DB/SEARCH/cat_db_al.cgi?e=e&j=p&pdfname=gxe; ComponentLink2Description: Digi-Key Listing; ComponentLink2URL: https://www.digikey.com/product-detail/en/united-chemi-con/EGXE251ELL220MK20S/565-3439-ND/3528605; Tolerance: 20%; Voltage: 250V; Price: 1.04; Device Package: Radial, Can, 12.5mm
footprint CAP AL TH D12.5 L5 H22
pins: 1, 2

## EGXE401ELL4R7MJ20S
designator C?, comment 4.7uF  (value not drawn)
CAP ALUM 4.7UF 20% 400V RADIAL; Part Number: EGXE401ELL4R7MJ20S; Manufacturer: United Chemi-Con; TemperatureRange: -25C ~ 125C; Type: Polar; Ripple Current: 53mA @ 120Hz; Value: 4.7uF; PartId: 25958; Supplier 1: Digi-Key; Supplier Part Number 1: 565-3441-ND; ComponentLink1Description: Datasheet; ComponentLink1URL: http://www.chemi-con.co.jp/cgi-bin/CAT_DB/SEARCH/cat_db_al.cgi?e=e&j=p&pdfname=gxe; ComponentLink2Description: Digi-Key Listing; ComponentLink2URL: https://www.digikey.com/product-detail/en/united-chemi-con/EGXE401ELL4R7MJ20S/565-3441-ND/3528623; Tolerance: 20%; Voltage: 400V; Price: 0.81; Device Package: Radial, Can, 10mm
footprint CAP AL TH D10 L5 H22
pins: 1, 2

## EGXE401ELL100MJ25S
designator C?, comment 10uF  (value not drawn)
CAP ALUM 10UF 20% 400V RADIAL; Part Number: EGXE401ELL100MJ25S; Manufacturer: United Chemi-Con; TemperatureRange: -25C ~ 125C; Type: Polar; Ripple Current: 86mA @ 120Hz; Value: 10uF; PartId: 26183; Supplier 1: Digi-Key; Supplier Part Number 1: 565-3440-ND; ComponentLink1Description: Datasheet; ComponentLink1URL: http://www.chemi-con.co.jp/cgi-bin/CAT_DB/SEARCH/cat_db_al.cgi?e=e&j=p&pdfname=gxe; ComponentLink2Description: Digi-Key Listing; ComponentLink2URL: https://www.digikey.com/product-detail/en/united-chemi-con/EGXE401ELL100MJ25S/565-3440-ND/3528620; Tolerance: 20%; Voltage: 400V; Price: 1.01; Device Package: Radial, Can, 10mm
footprint CAP AL TH D10 L5 H30
pins: 1, 2

## EGXE500ELL471MK25S
designator C?, comment 470uF  (value not drawn)
CAP ALUM 470UF 20% 50V RADIAL; Part Number: EGXE500ELL471MK25S; Manufacturer: United Chemi-Con; TemperatureRange: -40C ~ 125C; Type: Polar; Ripple Current: 575mA @ 120Hz; Impedance: 59 mOhm; Value: 470uF; PartId: 24001; Supplier 1: Digi-Key; Supplier Part Number 1: 565-3764-ND; ComponentLink1Description: Datasheet; ComponentLink1URL: http://www.chemi-con.co.jp/cgi-bin/CAT_DB/SEARCH/cat_db_al.cgi?e=e&j=p&pdfname=gxe; ComponentLink2Description: Digi-Key Listing; ComponentLink2URL: https://www.digikey.com/product-detail/en/united-chemi-con/EGXE500ELL471MK25S/565-3764-ND/3999885; Tolerance: 20%; Voltage: 50V; Price: 1.05; Device Package: Radial, Can, 12.5mm
footprint CAP AL TH D12.5 L5 H27
pins: 1, 2

## EGXE630ELL221MK20S
designator C?, comment 220uF  (value not drawn)
CAP ALUM 220UF 20% 63V RADIAL; Part Number: EGXE630ELL221MK20S; Manufacturer: United Chemi-Con; TemperatureRange: -40C ~ 125C; Type: Polar; Ripple Current: 525mA @ 120Hz; Impedance: 160 mOhm; Value: 220uF; PartId: 22971; Supplier 1: Digi-Key; Supplier Part Number 1: 565-4206-ND; ComponentLink1Description: Datasheet; ComponentLink1URL: http://www.chemi-con.co.jp/cgi-bin/CAT_DB/SEARCH/cat_db_al.cgi?e=e&j=p&pdfname=gxe; ComponentLink2Description: Digi-Key Listing; ComponentLink2URL: https://www.digikey.com/product-detail/en/united-chemi-con/EGXE630ELL221MK20S/565-4206-ND/3999891; Tolerance: 20%; Voltage: 63V; Price: 0; Device Package: Radial, Can, 12.5mm
footprint CAP AL TH D12.5 L5 H21.5
pins: 1, 2

## EGXF101ELL201MK25S
designator C?, comment 200uF  (value not drawn)
CAP MINI ALUM ELECTRO; Part Number: EGXF101ELL201MK25S; Manufacturer: United Chemi-Con; TemperatureRange: -40C ~ 125C; Tolerance: 20%; Voltage: 100V; Type: Polar; Ripple Current: 720mA @ 120Hz; Value: 200uF; PartId: 23774; Supplier 1: Digi-Key; Supplier Part Number 1: 565-4541-ND; ComponentLink1Description: Datasheet; ComponentLink1URL: http://www.chemi-con.co.jp/cgi-bin/CAT_DB/SEARCH/cat_db_al.cgi?e=e&j=p&pdfname=gxf; ComponentLink2Description: Digi-Key Listing; ComponentLink2URL: https://www.digikey.com/product-detail/en/united-chemi-con/EGXF101ELL201MK25S/565-4541-ND/6204522; Price: 2.09; Device Package: Radial, Can, 12.5mm
footprint CAP AL TH D12.5 L5 H26.5
pins: 1, 2

## EGXF201ELL101MK30S
designator C?, comment 100uF  (value not drawn)
CAP MINI ALUM ELECTRO; Part Number: EGXF201ELL101MK30S; Manufacturer: United Chemi-Con; TemperatureRange: -40C ~ 125C; Tolerance: 20%; Voltage: 200V; Type: Polar; Ripple Current: 619.5mA @ 120Hz; Value: 100uF; PartId: 24409; Supplier 1: Digi-Key; Supplier Part Number 1: 565-4547-ND; ComponentLink1Description: Datasheet; ComponentLink1URL: http://www.chemi-con.co.jp/cgi-bin/CAT_DB/SEARCH/cat_db_al.cgi?e=e&j=p&pdfname=gxf; ComponentLink2Description: Digi-Key Listing; ComponentLink2URL: https://www.digikey.com/product-detail/en/united-chemi-con/EGXF201ELL101MK30S/565-4547-ND/6204567; Price: 2; Device Package: Radial, Can, 12.5mm
footprint CAP AL TH D12.5 L5 H35.5
pins: 1, 2

## EGXF201ELL151ML25S
designator C?, comment 150uF  (value not drawn)
CAP MINI ALUM ELECTRO; Part Number: EGXF201ELL151ML25S; Manufacturer: United Chemi-Con; TemperatureRange: -40C ~ 125C; Tolerance: 20%; Voltage: 200V; Type: Polar; Ripple Current: 647.5mA @ 120Hz; Value: 150uF; PartId: 26720; Supplier 1: Digi-Key; Supplier Part Number 1: 565-4548-ND; ComponentLink1Description: Datasheet; ComponentLink1URL: http://www.chemi-con.co.jp/cgi-bin/CAT_DB/SEARCH/cat_db_al.cgi?e=e&j=p&pdfname=gxf; ComponentLink2Description: Digi-Key Listing; ComponentLink2URL: https://www.digikey.com/product-detail/en/united-chemi-con/EGXF201ELL151ML25S/565-4548-ND/6204574; Price: 2.74; Device Package: Radial, Can, 16mm
footprint CAP AL TH D16 L7.5 H26.5
pins: 1, 2

## EGXF250ELL122MJ20S
designator C?, comment 1200uF  (value not drawn)
CAP MINI ALUM ELECTRO; Part Number: EGXF250ELL122MJ20S; Manufacturer: United Chemi-Con; TemperatureRange: -40C ~ 125C; Tolerance: 20%; Voltage: 25V; Type: Polar; Ripple Current: 924mA @ 120Hz; Value: 1200uF; PartId: 25719; Supplier 1: Digi-Key; Supplier Part Number 1: 565-4552-ND; ComponentLink1Description: Datasheet; ComponentLink1URL: http://www.chemi-con.co.jp/cgi-bin/CAT_DB/SEARCH/cat_db_al.cgi?e=e&j=p&pdfname=gxf; ComponentLink2Description: Digi-Key Listing; ComponentLink2URL: https://www.digikey.com/product-detail/en/united-chemi-con/EGXF250ELL122MJ20S/565-4552-ND/6204396; Price: 1.46; Device Package: Radial, Can, 10mm
footprint CAP AL TH D10 L5 H22
pins: 1, 2

## EGXF250ELL152MJ25S
designator C?, comment 1500uF  (value not drawn)
CAP MINI ALUM ELECTRO; Part Number: EGXF250ELL152MJ25S; Manufacturer: United Chemi-Con; TemperatureRange: -40C ~ 125C; Tolerance: 20%; Voltage: 25V; Type: Polar; Ripple Current: 1.128A @ 120Hz; Value: 1500uF; PartId: 26193; Supplier 1: Digi-Key; Supplier Part Number 1: 565-4553-ND; ComponentLink1Description: Datasheet; ComponentLink1URL: http://www.chemi-con.co.jp/cgi-bin/CAT_DB/SEARCH/cat_db_al.cgi?e=e&j=p&pdfname=gxf; ComponentLink2Description: Digi-Key Listing; ComponentLink2URL: https://www.digikey.com/product-detail/en/united-chemi-con/EGXF250ELL152MJ25S/565-4553-ND/6204398; Price: 1.38; Device Package: Radial, Can, 10mm
footprint CAP AL TH D10 L5 H30
pins: 1, 2

## EGXF250ELL182MK20S
designator C?, comment 1800uF  (value not drawn)
CAP MINI ALUM ELECTRO; Part Number: EGXF250ELL182MK20S; Manufacturer: United Chemi-Con; TemperatureRange: -40C ~ 125C; Tolerance: 20%; Voltage: 25V; Type: Polar; Ripple Current: 954mA @ 120Hz; Value: 1800uF; PartId: 23062; Supplier 1: Digi-Key; Supplier Part Number 1: 565-4554-ND; ComponentLink1Description: Datasheet; ComponentLink1URL: http://www.chemi-con.co.jp/cgi-bin/CAT_DB/SEARCH/cat_db_al.cgi?e=e&j=p&pdfname=gxf; ComponentLink2Description: Digi-Key Listing; ComponentLink2URL: https://www.digikey.com/product-detail/en/united-chemi-con/EGXF250ELL182MK20S/565-4554-ND/6204400; Price: 0; Device Package: Radial, Can, 12.5mm
footprint CAP AL TH D12.5 L5 H21.5
pins: 1, 2

## EGXF250ELL272MK25S
designator C?, comment 2700uF  (value not drawn)
CAP MINI ALUM ELECTRO; Part Number: EGXF250ELL272MK25S; Manufacturer: United Chemi-Con; TemperatureRange: -40C ~ 125C; Tolerance: 20%; Voltage: 25V; Type: Polar; Ripple Current: 1.71A @ 120Hz; Value: 2700uF; PartId: 23770; Supplier 1: Digi-Key; Supplier Part Number 1: 565-4556-ND; ComponentLink1Description: Datasheet; ComponentLink1URL: http://www.chemi-con.co.jp/cgi-bin/CAT_DB/SEARCH/cat_db_al.cgi?e=e&j=p&pdfname=gxf; ComponentLink2Description: Digi-Key Listing; ComponentLink2URL: https://www.digikey.com/product-detail/en/united-chemi-con/EGXF250ELL272MK25S/565-4556-ND/6204404; Price: 1.91; Device Package: Radial, Can, 12.5mm
footprint CAP AL TH D12.5 L5 H26.5
pins: 1, 2

## EGXF250ELL682ML35S
designator C?, comment 6800uF  (value not drawn)
CAP MINI ALUM ELECTRO; Part Number: EGXF250ELL682ML35S; Manufacturer: United Chemi-Con; TemperatureRange: -40C ~ 125C; Tolerance: 20%; Voltage: 25V; Type: Polar; Ripple Current: 2.178A @ 120Hz; Value: 6800uF; PartId: 27441; Supplier 1: Digi-Key; Supplier Part Number 1: 565-4560-ND; ComponentLink1Description: Datasheet; ComponentLink1URL: http://www.chemi-con.co.jp/cgi-bin/CAT_DB/SEARCH/cat_db_al.cgi?e=e&j=p&pdfname=gxf; ComponentLink2Description: Digi-Key Listing; ComponentLink2URL: https://www.digikey.com/product-detail/en/united-chemi-con/EGXF250ELL682ML35S/565-4560-ND/6204417; Price: 3.44; Device Package: Radial, Can, 16mm
footprint CAP AL TH D16 L7.5 H37
pins: 1, 2

## EGXF250ELL751MJ16S
designator C?, comment 750uF  (value not drawn)
CAP MINI ALUM ELECTRO; Part Number: EGXF250ELL751MJ16S; Manufacturer: United Chemi-Con; TemperatureRange: -40C ~ 125C; Tolerance: 20%; Voltage: 25V; Type: Polar; Ripple Current: 780mA @ 120Hz; Value: 750uF; PartId: 25423; Supplier 1: Digi-Key; Supplier Part Number 1: 565-4561-ND; ComponentLink1Description: Datasheet; ComponentLink1URL: http://www.chemi-con.co.jp/cgi-bin/CAT_DB/SEARCH/cat_db_al.cgi?e=e&j=p&pdfname=gxf; ComponentLink2Description: Digi-Key Listing; ComponentLink2URL: https://www.digikey.com/product-detail/en/united-chemi-con/EGXF250ELL751MJ16S/565-4561-ND/6204394; Price: 1.02; Device Package: Radial, Can, 10mm
footprint CAP AL TH D10 L5 H17.5
pins: 1, 2

## EGXF251ELL240MJ20S
designator C?, comment 24uF  (value not drawn)
CAP MINI ALUM ELECTRO; Part Number: EGXF251ELL240MJ20S; Manufacturer: United Chemi-Con; TemperatureRange: -40C ~ 125C; Tolerance: 20%; Voltage: 250V; Type: Polar; Ripple Current: 270mA @ 120Hz; Value: 24uF; PartId: 25716; Supplier 1: Digi-Key; Supplier Part Number 1: 565-4565-ND; ComponentLink1Description: Datasheet; ComponentLink1URL: http://www.chemi-con.co.jp/cgi-bin/CAT_DB/SEARCH/cat_db_al.cgi?e=e&j=p&pdfname=gxf; ComponentLink2Description: Digi-Key Listing; ComponentLink2URL: https://www.digikey.com/product-detail/en/united-chemi-con/EGXF251ELL240MJ20S/565-4565-ND/6204578; Price: 1.25; Device Package: Radial, Can, 10mm
footprint CAP AL TH D10 L5 H22
pins: 1, 2

## EGXF251ELL300MJ25S
designator C?, comment 30uF  (value not drawn)
CAP MINI ALUM ELECTRO; Part Number: EGXF251ELL300MJ25S; Manufacturer: United Chemi-Con; TemperatureRange: -40C ~ 125C; Tolerance: 20%; Voltage: 250V; Type: Polar; Ripple Current: 360mA @ 120Hz; Value: 30uF; PartId: 26194; Supplier 1: Digi-Key; Supplier Part Number 1: 565-4566-ND; ComponentLink1Description: Datasheet; ComponentLink1URL: http://www.chemi-con.co.jp/cgi-bin/CAT_DB/SEARCH/cat_db_al.cgi?e=e&j=p&pdfname=gxf; ComponentLink2Description: Digi-Key Listing; ComponentLink2URL: https://www.digikey.com/product-detail/en/united-chemi-con/EGXF251ELL300MJ25S/565-4566-ND/6204579; Price: 1.45; Device Package: Radial, Can, 10mm
footprint CAP AL TH D10 L5 H30
pins: 1, 2

## EGXF251ELL360MK20S
designator C?, comment 36uF  (value not drawn)
CAP MINI ALUM ELECTRO; Part Number: EGXF251ELL360MK20S; Manufacturer: United Chemi-Con; TemperatureRange: -40C ~ 125C; Tolerance: 20%; Voltage: 250V; Type: Polar; Ripple Current: 427mA @ 120Hz; Value: 36uF; PartId: 23064; Supplier 1: Digi-Key; Supplier Part Number 1: 565-4567-ND; ComponentLink1Description: Datasheet; ComponentLink1URL: http://www.chemi-con.co.jp/cgi-bin/CAT_DB/SEARCH/cat_db_al.cgi?e=e&j=p&pdfname=gxf; ComponentLink2Description: Digi-Key Listing; ComponentLink2URL: https://www.digikey.com/product-detail/en/united-chemi-con/EGXF251ELL360MK20S/565-4567-ND/6204580; Price: 0; Device Package: Radial, Can, 12.5mm
footprint CAP AL TH D12.5 L5 H21.5
pins: 1, 2

## EGXF251ELL510MK25S
designator C?, comment 51uF  (value not drawn)
CAP MINI ALUM ELECTRO; Part Number: EGXF251ELL510MK25S; Manufacturer: United Chemi-Con; TemperatureRange: -40C ~ 125C; Tolerance: 20%; Voltage: 250V; Type: Polar; Ripple Current: 528.5mA @ 120Hz; Value: 51uF; PartId: 23762; Supplier 1: Digi-Key; Supplier Part Number 1: 565-4570-ND; ComponentLink1Description: Datasheet; ComponentLink1URL: http://www.chemi-con.co.jp/cgi-bin/CAT_DB/SEARCH/cat_db_al.cgi?e=e&j=p&pdfname=gxf; ComponentLink2Description: Digi-Key Listing; ComponentLink2URL: https://www.digikey.com/product-detail/en/united-chemi-con/EGXF251ELL510MK25S/565-4570-ND/6204583; Price: 1.78; Device Package: Radial, Can, 12.5mm
footprint CAP AL TH D12.5 L5 H26.5
pins: 1, 2

## EGXF251ELL620ML20S
designator C?, comment 62uF  (value not drawn)
CAP MINI ALUM ELECTRO; Part Number: EGXF251ELL620ML20S; Manufacturer: United Chemi-Con; TemperatureRange: -40C ~ 125C; Tolerance: 20%; Voltage: 250V; Type: Polar; Ripple Current: 525mA @ 120Hz; Value: 62uF; PartId: 26499; Supplier 1: Digi-Key; Supplier Part Number 1: 565-4572-ND; ComponentLink1Description: Datasheet; ComponentLink1URL: http://www.chemi-con.co.jp/cgi-bin/CAT_DB/SEARCH/cat_db_al.cgi?e=e&j=p&pdfname=gxf; ComponentLink2Description: Digi-Key Listing; ComponentLink2URL: https://www.digikey.com/product-detail/en/united-chemi-con/EGXF251ELL620ML20S/565-4572-ND/6204586; Price: 2.22; Device Package: Radial, Can, 16mm
footprint CAP AL TH D16 L7.5 H22
pins: 1, 2

## EGXF251ELL680MK30S
designator C?, comment 68uF  (value not drawn)
CAP MINI ALUM ELECTRO; Part Number: EGXF251ELL680MK30S; Manufacturer: United Chemi-Con; TemperatureRange: -40C ~ 125C; Tolerance: 20%; Voltage: 250V; Type: Polar; Ripple Current: 619.5mA @ 120Hz; Value: 68uF; PartId: 24418; Supplier 1: Digi-Key; Supplier Part Number 1: 565-4573-ND; ComponentLink1Description: Datasheet; ComponentLink1URL: http://www.chemi-con.co.jp/cgi-bin/CAT_DB/SEARCH/cat_db_al.cgi?e=e&j=p&pdfname=gxf; ComponentLink2Description: Digi-Key Listing; ComponentLink2URL: https://www.digikey.com/product-detail/en/united-chemi-con/EGXF251ELL680MK30S/565-4573-ND/6204587; Price: 2.21; Device Package: Radial, Can, 12.5mm
footprint CAP AL TH D12.5 L5 H35.5
pins: 1, 2

## EGXF251ELL910ML25S
designator C?, comment 91uF  (value not drawn)
CAP MINI ALUM ELECTRO; Part Number: EGXF251ELL910ML25S; Manufacturer: United Chemi-Con; TemperatureRange: -40C ~ 125C; Tolerance: 20%; Voltage: 250V; Type: Polar; Ripple Current: 647.5mA @ 120Hz; Value: 91uF; PartId: 26726; Supplier 1: Digi-Key; Supplier Part Number 1: 565-4576-ND; ComponentLink1Description: Datasheet; ComponentLink1URL: http://www.chemi-con.co.jp/cgi-bin/CAT_DB/SEARCH/cat_db_al.cgi?e=e&j=p&pdfname=gxf; ComponentLink2Description: Digi-Key Listing; ComponentLink2URL: https://www.digikey.com/product-detail/en/united-chemi-con/EGXF251ELL910ML25S/565-4576-ND/6204592; Price: 2.89; Device Package: Radial, Can, 16mm
footprint CAP AL TH D16 L7.5 H26.5
pins: 1, 2